# EAGLE library part LTV-845 (library myhvac)
4 channel Optocoupler (Darlington) 16 pin.
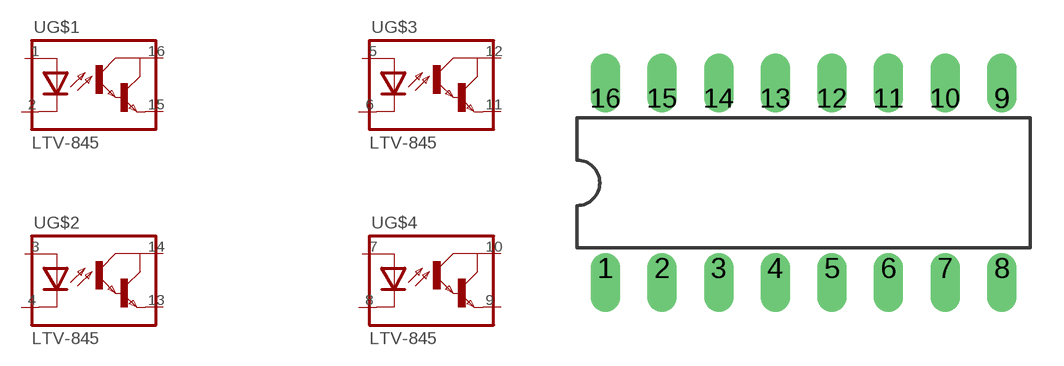
[diagram p0: symbol with the pads of DIL16; footprint DIL16]

Designator prefix -; gates G$1=OPTO-ISO-DARLINGTON G$2=OPTO-ISO-DARLINGTON G$3=OPTO-ISO-DARLINGTON G$4=OPTO-ISO-DARLINGTON

## LTV-845  [DIL16]
1  G$1:ANNODE
2  G$1:CATHODE
3  G$2:ANNODE
4  G$2:CATHODE
5  G$3:ANNODE
6  G$3:CATHODE
7  G$4:ANNODE
8  G$4:CATHODE
9  G$4:EMITTER
10  G$4:COLLECTOR
11  G$3:EMITTER
12  G$3:COLLECTOR
13  G$2:EMITTER
14  G$2:COLLECTOR
15  G$1:EMITTER
16  G$1:COLLECTOR

## Footprint DIL16 (pad centres in mm)
Dual In Line Package
drill 0.813 offset: 1 -8.89,-3.81; 2 -6.35,-3.81; 3 -3.81,-3.81; 4 -1.27,-3.81; 5 1.27,-3.81; 6 3.81,-3.81; 7 6.35,-3.81; 8 8.89,-3.81; 9 8.89,3.81; 10 6.35,3.81; 11 3.81,3.81; 12 1.27,3.81; 13 -1.27,3.81; 14 -3.81,3.81; 15 -6.35,3.81; 16 -8.89,3.81